# Altium integrated library ZC362800_.IntLib: 1 symbol
Pins are listed as number, name and electrical type; pins without a type are passive.

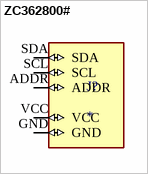
[diagram p0: symbol ZC362800#]

## ZC362800#
designator J?
1pc BH1750 Digital Ambient Light Intensity Sensor Module for Arduino GY-302; MF: YKS; MP: ZC362800#; SnapEDA_Link: https://www.snapeda.com/parts/ZC362800%23/YKS/view-part/?ref=snap; Package: None; Value: *; Check_prices: https://www.snapeda.com/parts/ZC362800%23/YKS/view-part/?ref=eda
footprint ZC362800#
pins: ADDR (io), GND (io), SCL (io), SDA (io), VCC (io)